# EAGLE library part AD1955 (library untitled)
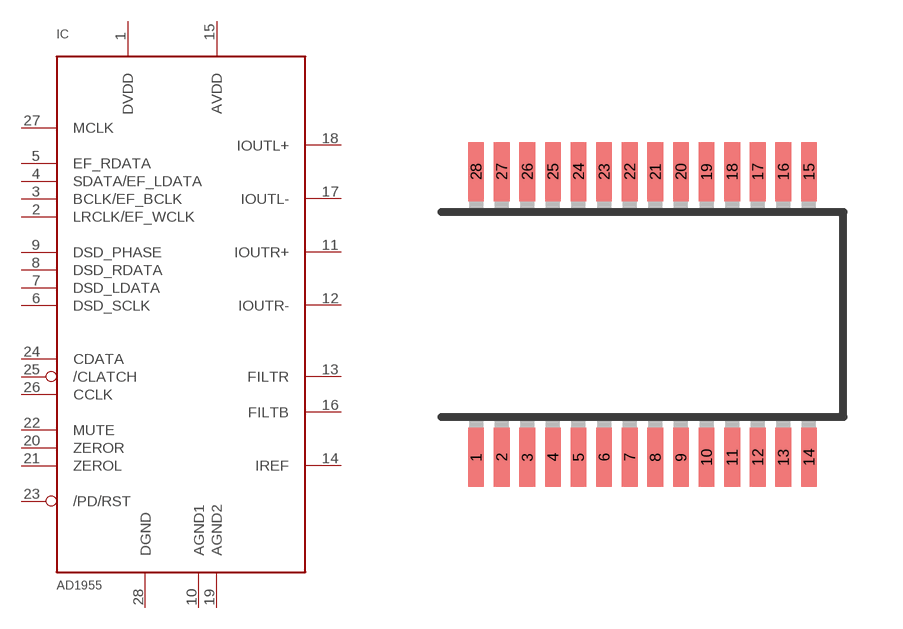
[diagram p0: symbol with the pads of SSOP28; footprint SSOP28]

Designator prefix IC

## AD1955  [SSOP28]
1  DVDD  sup
2  LRCLK/EF_WCLK  in
3  BCLK/EF_BCLK  in
4  SDATA/EF_LDATA  in
5  EF_RDATA  in
6  DSD_SCLK  in
7  DSD_LDATA  in
8  DSD_RDATA  in
9  DSD_PHASE  in
10  AGND1  sup
11  IOUTR+  out
12  IOUTR-  out
13  FILTR  pas
14  IREF  pas
15  AVDD  sup
16  FILTB  pas
17  IOUTL-  out
18  IOUTL+  out
19  AGND2  sup
20  ZEROR  out
21  ZEROL  out
22  MUTE  in
23  /PD/RST  in
24  CDATA  in
25  /CLATCH  in
26  CCLK  in
27  MCLK  in
28  DGND  sup

## Footprint SSOP28 (pad centres in mm)
Shrink Small Outline Package package type SS
smd 0.4 x 1.5: 1 -4.225,-3.625; 2 -3.575,-3.625; 3 -2.925,-3.625; 4 -2.275,-3.625; 5 -1.625,-3.625; 6 -0.975,-3.625; 7 -0.325,-3.625; 8 0.325,-3.625; 9 0.975,-3.625; 10 1.625,-3.625; 11 2.275,-3.625; 12 2.925,-3.625; 13 3.575,-3.625; 14 4.225,-3.625; 15 4.225,3.625; 16 3.575,3.625; 17 2.925,3.625; 18 2.275,3.625; 19 1.625,3.625; 20 0.975,3.625; 21 0.325,3.625; 22 -0.325,3.625; 23 -0.975,3.625; 24 -1.625,3.625; 25 -2.275,3.625; 26 -2.925,3.625; 27 -3.575,3.625; 28 -4.225,3.625